# EAGLE library part LTC3600 (library components)
LTC3600 Buck Regulator
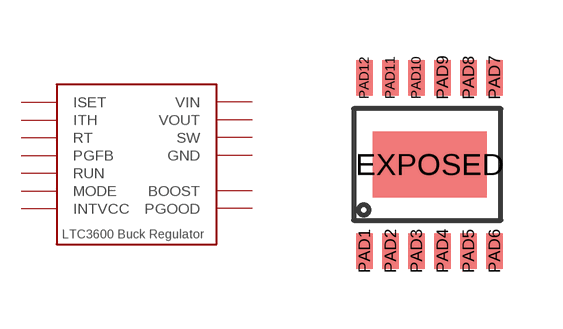
[diagram p6: symbol with the pads of MSOP12; footprint MSOP12]

Designator prefix -

## LTC3600  [MSOP12]
EXPOSED  GND  pwr
PAD1  ISET
PAD2  ITH
PAD3  RT
PAD4  PGFB
PAD5  RUN
PAD6  MODE
PAD7  SW
PAD8  VIN  pwr
PAD9  BOOST
PAD10  INTVCC
PAD11  VOUT  pwr
PAD12  PGOOD

## Footprint MSOP12 (pad centres in mm)
MSOP-12 Exposed Pad
smd 2.845 x 1.651: EXPOSED 0,0
smd 0.419 x 0.889: PAD1 -1.632,-2.172; PAD2 -0.982,-2.172; PAD3 -0.331,-2.172; PAD4 0.319,-2.172; PAD5 0.969,-2.172; PAD6 1.619,-2.172; PAD7 1.619,2.172; PAD8 0.969,2.172; PAD9 0.319,2.172; PAD10 -0.331,2.172; PAD11 -0.982,2.172; PAD12 -1.632,2.172